# Altium schematic symbol library Integrated_Library1.SCHLIB: 1 symbol
Pins are listed as number, name and electrical type; pins without a type are passive.

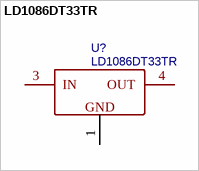
[diagram p0: symbol LD1086DT33TR]

## LD1086DT33TR
designator U?
BOM_Manufacturer: STMicroelectronics; BOM_Supplier: LCSC; BOM_Manufacturer Part: LD1086DT33TR; BOM_Supplier Part: C12051; BOM_JLCPCB Part Class: Extended Part; spicePre: U; spiceSymbolName: LD1086DT33TR
footprint TO-252-2_L6.5-W6.1-P4.58-LS10.0-TL
pins: 1 GND, 3 IN, 4 OUT